# EAGLE library part HMC313E (library HMC313)
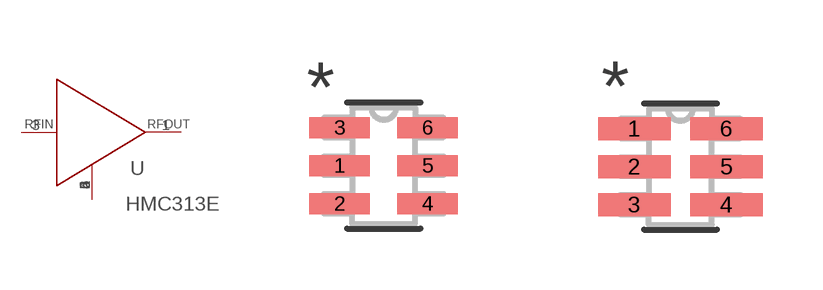
[diagram p0: symbol with the pads of HRJ_6_1; footprints HRJ_6_1, HRJ_6_1-M]

Designator prefix U

## HMC313E (MANUFACTURER_PART_NUMBER: HMC313E; VENDOR: Analog Devices Inc)  [HRJ_6_1]
1  RFOUT  pas
2  GND_2  pas
3  RFIN  pas
4  GND_3  pas
5  GND_4  pas
6  GND  pas

## HMC313EHRJ_6_1-M (MANUFACTURER_PART_NUMBER: HMC313E; VENDOR: Analog Devices Inc)  [HRJ_6_1-M]
Pads as for HRJ_6_1

## HMC313EHRJ_6_1-L (MANUFACTURER_PART_NUMBER: HMC313E; VENDOR: Analog Devices Inc)  [HRJ_6_1-L]
Pads as for HRJ_6_1

## Footprint HRJ_6_1 (pad centres in mm)
smd 1.511 x 0.531: 1 -1.1,0; 2 -1.1,-0.95; 3 -1.1,0.95; 4 1.1,-0.95; 5 1.1,0; 6 1.1,0.95

## Footprint HRJ_6_1-M (pad centres in mm)
smd 1.816 x 0.582: 1 -1.151,0.95; 2 -1.151,0; 3 -1.151,-0.95; 4 1.151,-0.95; 5 1.151,0; 6 1.151,0.95

## Footprint HRJ_6_1-L (pad centres in mm)
smd 1.206 x 0.48: 1 -1.049,0.95; 2 -1.049,0; 3 -1.049,-0.95; 4 1.049,-0.95; 5 1.049,0; 6 1.049,0.95